# EAGLE library part PAWLA_EP1K30TC144 (library EP1K30TC144)
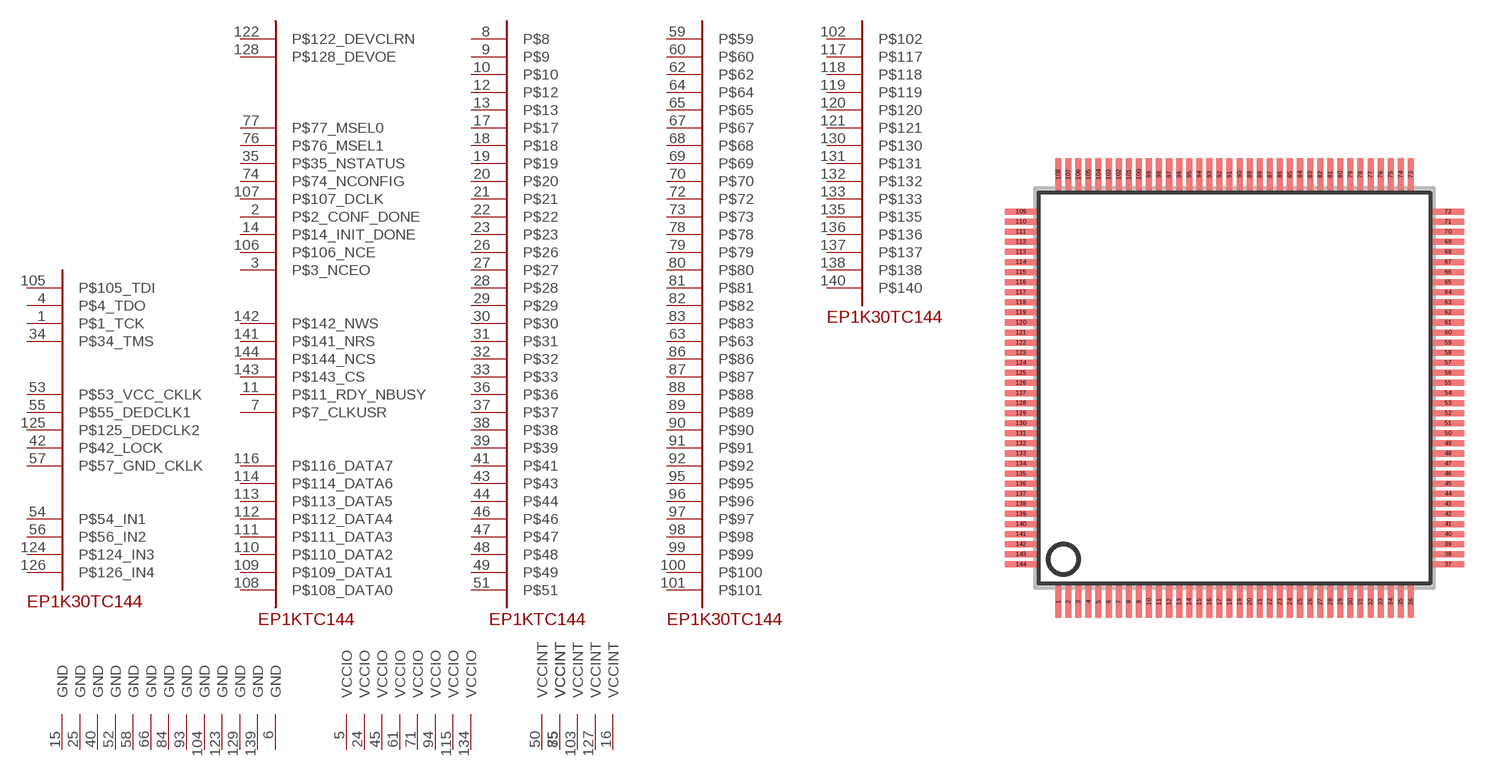
[diagram p0: symbol with the pads of PAWLA_TQFP144; footprint PAWLA_TQFP144]

Designator prefix -; gates G$1=PAWLA_EP1K30A G$2=PAWLA_GND G$3=PAWLA_GND G$4=PAWLA_GND G$5=PAWLA_GND G$6=PAWLA_GND G$7=PAWLA_GND G$8=PAWLA_GND G$9=PAWLA_GND G$10=PAWLA_GND G$11=PAWLA_GND G$12=PAWLA_GND G$13=PAWLA_GND G$14=PAWLA_VCCINT G$15=PAWLA_VCCIO G$16=PAWLA_VCCIO G$17=PAWLA_VCCIO G$18=PAWLA_VCCIO G$19=PAWLA_VCCIO G$20=PAWLA_VCCIO G$21=PAWLA_VCCIO G$22=PAWLA_VCCIO G$23=PAWLA_VCCINT G$24=PAWLA_VCCINT G$25=PAWLA_VCCINT G$26=PAWLA_VCCINT G$27=PAWLA_VCCINT G$28=PAWLA_GND

## PAWLA_EP1K30TC144  [PAWLA_TQFP144]
1  G$1:P$1_TCK
2  G$1:P$2_CONF_DONE
3  G$1:P$3_NCEO
4  G$1:P$4_TDO
5  G$15:VCCIO  pwr
6  G$2:GND  pwr
7  G$1:P$7_CLKUSR
8  G$1:P$8
9  G$1:P$9
10  G$1:P$10
11  G$1:P$11_RDY_NBUSY
12  G$1:P$12
13  G$1:P$13
14  G$1:P$14_INIT_DONE
15  G$3:GND  pwr
16  G$14:VCCINT  pwr
17  G$1:P$17
18  G$1:P$18
19  G$1:P$19
20  G$1:P$20
21  G$1:P$21
22  G$1:P$22
23  G$1:P$23
24  G$16:VCCIO  pwr
25  G$4:GND  pwr
26  G$1:P$26
27  G$1:P$27
28  G$1:P$28
29  G$1:P$29
30  G$1:P$30
31  G$1:P$31
32  G$1:P$32
33  G$1:P$33
34  G$1:P$34_TMS
35  G$1:P$35_NSTATUS
36  G$1:P$36
37  G$1:P$37
38  G$1:P$38
39  G$1:P$39
40  G$5:GND  pwr
41  G$1:P$41
42  G$1:P$42_LOCK
43  G$1:P$43
44  G$1:P$44
45  G$17:VCCIO  pwr
46  G$1:P$46
47  G$1:P$47
48  G$1:P$48
49  G$1:P$49
50  G$23:VCCINT  pwr
51  G$1:P$51
52  G$6:GND  pwr
53  G$1:P$53_VCC_CKLK
54  G$1:P$54_IN1
55  G$1:P$55_DEDCLK1
56  G$1:P$56_IN2
57  G$1:P$57_GND_CKLK
58  G$7:GND  pwr
59  G$1:P$59
60  G$1:P$60
61  G$18:VCCIO  pwr
62  G$1:P$62
63  G$1:P$63
64  G$1:P$64
65  G$1:P$65
66  G$8:GND  pwr
67  G$1:P$67
68  G$1:P$68
69  G$1:P$69
70  G$1:P$70
71  G$19:VCCIO  pwr
72  G$1:P$72
73  G$1:P$73
74  G$1:P$74_NCONFIG
75  G$24:VCCINT  pwr
76  G$1:P$76_MSEL1
77  G$1:P$77_MSEL0
78  G$1:P$78
79  G$1:P$79
80  G$1:P$80
81  G$1:P$81
82  G$1:P$82
83  G$1:P$83
84  G$9:GND  pwr
85  G$25:VCCINT  pwr
86  G$1:P$86
87  G$1:P$87
88  G$1:P$88
89  G$1:P$89
90  G$1:P$90
91  G$1:P$91
92  G$1:P$92
93  G$10:GND  pwr
94  G$20:VCCIO  pwr
95  G$1:P$95
96  G$1:P$96
97  G$1:P$97
98  G$1:P$98
99  G$1:P$99
100  G$1:P$100
101  G$1:P$101
102  G$1:P$102
103  G$26:VCCINT  pwr
104  G$11:GND  pwr
105  G$1:P$105_TDI
106  G$1:P$106_NCE
107  G$1:P$107_DCLK
108  G$1:P$108_DATA0
109  G$1:P$109_DATA1
110  G$1:P$110_DATA2
111  G$1:P$111_DATA3
112  G$1:P$112_DATA4
113  G$1:P$113_DATA5
114  G$1:P$114_DATA6
115  G$21:VCCIO  pwr
116  G$1:P$116_DATA7
117  G$1:P$117
118  G$1:P$118
119  G$1:P$119
120  G$1:P$120
121  G$1:P$121
122  G$1:P$122_DEVCLRN
123  G$12:GND  pwr
124  G$1:P$124_IN3
125  G$1:P$125_DEDCLK2
126  G$1:P$126_IN4
127  G$27:VCCINT  pwr
128  G$1:P$128_DEVOE
129  G$13:GND  pwr
130  G$1:P$130
131  G$1:P$131
132  G$1:P$132
133  G$1:P$133
134  G$22:VCCIO  pwr
135  G$1:P$135
136  G$1:P$136
137  G$1:P$137
138  G$1:P$138
139  G$28:GND  pwr
140  G$1:P$140
141  G$1:P$141_NRS
142  G$1:P$142_NWS
143  G$1:P$143_CS
144  G$1:P$144_NCS

## Footprint PAWLA_TQFP144 (pad centres in mm)
QFP144 shrink quad flat pack, square (smd-ipc)
smd 0.3 x 1.6: 1 -8.75,-10.6; 2 -8.25,-10.6; 3 -7.75,-10.6; 4 -7.25,-10.6; 5 -6.75,-10.6; 6 -6.25,-10.6; 7 -5.75,-10.6; 8 -5.25,-10.6; 9 -4.75,-10.6; 10 -4.25,-10.6; 11 -3.75,-10.6; 12 -3.25,-10.6; 13 -2.75,-10.6; 14 -2.25,-10.6; 15 -1.75,-10.6; 16 -1.25,-10.6; 17 -0.75,-10.6; 18 -0.25,-10.6; 19 0.25,-10.6; 20 0.75,-10.6; 21 1.25,-10.6; 22 1.75,-10.6; 23 2.25,-10.6; 24 2.75,-10.6; 25 3.25,-10.6; 26 3.75,-10.6; 27 4.25,-10.6; 28 4.75,-10.6; 29 5.25,-10.6; 30 5.75,-10.6; 31 6.25,-10.6; 32 6.75,-10.6; 33 7.25,-10.6; 34 7.75,-10.6; 35 8.25,-10.6; 36 8.75,-10.6; 73 8.75,10.6; 74 8.25,10.6; 75 7.75,10.6; 76 7.25,10.6; 77 6.75,10.6; 78 6.25,10.6; 79 5.75,10.6; 80 5.25,10.6; 81 4.75,10.6; 82 4.25,10.6; 83 3.75,10.6; 84 3.25,10.6; 85 2.75,10.6; 86 2.25,10.6; 87 1.75,10.6; 88 1.25,10.6; 89 0.75,10.6; 90 0.25,10.6; 91 -0.25,10.6; 92 -0.75,10.6; 93 -1.25,10.6; 94 -1.75,10.6; 95 -2.25,10.6; 96 -2.75,10.6; 97 -3.25,10.6; 98 -3.75,10.6; 99 -4.25,10.6; 100 -4.75,10.6; 101 -5.25,10.6; 102 -5.75,10.6; 103 -6.25,10.6; 104 -6.75,10.6; 105 -7.25,10.6; 106 -7.75,10.6; 107 -8.25,10.6; 108 -8.75,10.6
smd 1.6 x 0.3: 37 10.6,-8.75; 38 10.6,-8.25; 39 10.6,-7.75; 40 10.6,-7.25; 41 10.6,-6.75; 42 10.6,-6.25; 43 10.6,-5.75; 44 10.6,-5.25; 45 10.6,-4.75; 46 10.6,-4.25; 47 10.6,-3.75; 48 10.6,-3.25; 49 10.6,-2.75; 50 10.6,-2.25; 51 10.6,-1.75; 52 10.6,-1.25; 53 10.6,-0.75; 54 10.6,-0.25; 55 10.6,0.25; 56 10.6,0.75; 57 10.6,1.25; 58 10.6,1.75; 59 10.6,2.25; 60 10.6,2.75; 61 10.6,3.25; 62 10.6,3.75; 63 10.6,4.25; 64 10.6,4.75; 65 10.6,5.25; 66 10.6,5.75; 67 10.6,6.25; 68 10.6,6.75; 69 10.6,7.25; 70 10.6,7.75; 71 10.6,8.25; 72 10.6,8.75; 109 -10.6,8.75; 110 -10.6,8.25; 111 -10.6,7.75; 112 -10.6,7.25; 113 -10.6,6.75; 114 -10.6,6.25; 115 -10.6,5.75; 116 -10.6,5.25; 117 -10.6,4.75; 118 -10.6,4.25; 119 -10.6,3.75; 120 -10.6,3.25; 121 -10.6,2.75; 122 -10.6,2.25; 123 -10.6,1.75; 124 -10.6,1.25; 125 -10.6,0.75; 126 -10.6,0.25; 127 -10.6,-0.25; 128 -10.6,-0.75; 129 -10.6,-1.25; 130 -10.6,-1.75; 131 -10.6,-2.25; 132 -10.6,-2.75; 133 -10.6,-3.25; 134 -10.6,-3.75; 135 -10.6,-4.25; 136 -10.6,-4.75; 137 -10.6,-5.25; 138 -10.6,-5.75; 139 -10.6,-6.25; 140 -10.6,-6.75; 141 -10.6,-7.25; 142 -10.6,-7.75; 143 -10.6,-8.25; 144 -10.6,-8.75